# EAGLE library part 4DIP (library mylib)
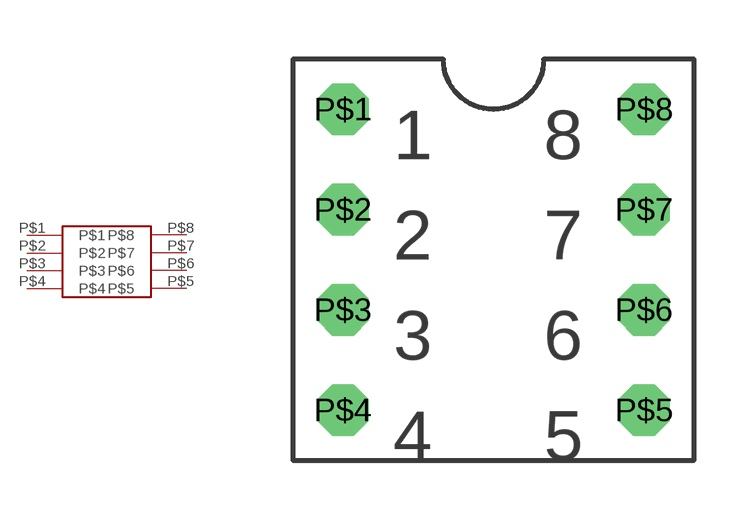
[diagram p8: symbol with the pads of 4DIP; footprint 4DIP]

Designator prefix -

## 4DIP  [4DIP]
P$1  P$1
P$2  P$2
P$3  P$3
P$4  P$4
P$5  P$5
P$6  P$6
P$7  P$7
P$8  P$8

## Footprint 4DIP (pad centres in mm)
drill 0.8 octagon: P$1 1.27,8.89; P$2 1.27,6.35; P$3 1.27,3.81; P$4 1.27,1.27; P$5 8.89,1.27; P$6 8.89,3.81; P$7 8.89,6.35; P$8 8.89,8.89